# Altium footprint library ESC.PcbLib: 44 footprints (part 3 of 3)
Each footprint in its own frame and in the unit in brackets; x right, y up, seen from the top. Pads: shape width x height; smd on the part's side, far side on the other; paste and mask are expansions set on the pad; w line width, h text height; cw(c..) or ccw(c..) is an arc to the next point about the centre after c.
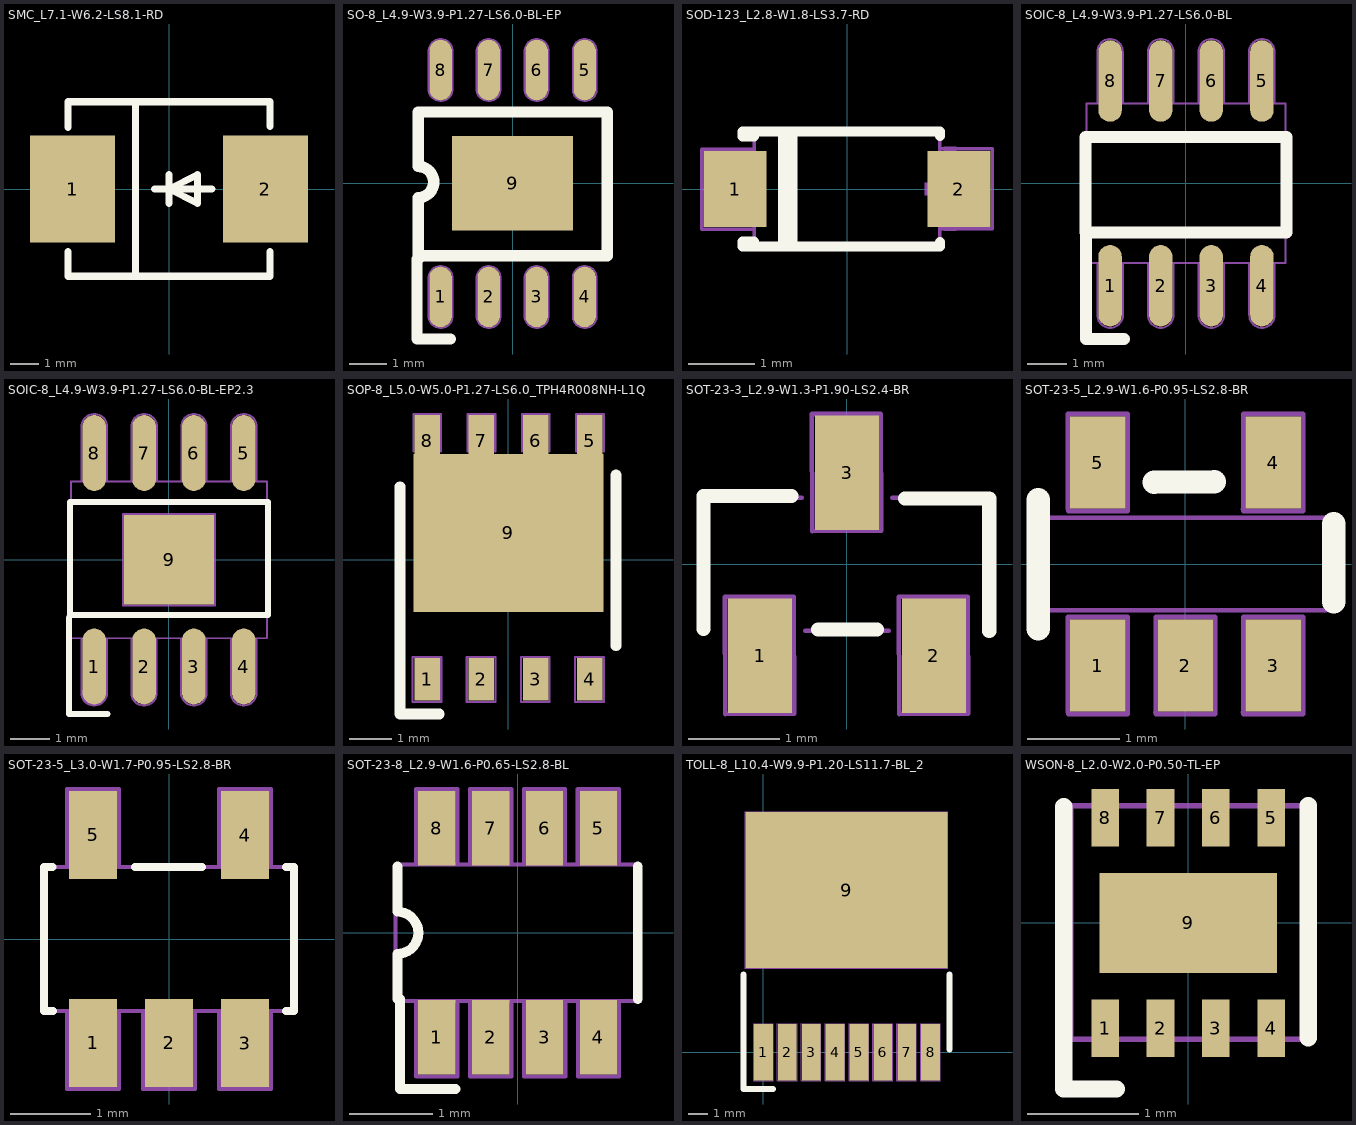
[diagram p2: the footprints below, top view; thin cyan lines are the x and y axes]

## SMC_L7.1-W6.2-LS8.1-RD [mm] "DO-214AB"
height 2.62
pads (2):
  rect 3.03x3.82 smd paste+0 mask+0.051: 1(-3.435,0) 2(3.435,0)
Top Overlay:
  lines w0.254: -3.6,-2.225 -3.6,-3.11 3.6,-3.11 3.6,-2.227 ; -3.6,2.202 -3.6,3.11 3.6,3.11 3.6,2.234 ; -1.192,-3.11 -1.192,3.11 ; -0.508,0 1.524,0 ; 0,0.508 0,-0.508 0,0 ; 0,0 1.016,0.508 1.016,-0.508 0,0
Mechanical 15:
  region: 2.54,0.254 4.318,0.254 4.318,-0.254 2.54,-0.254
  region: 3.181,-0.895 3.181,0.883 3.689,0.883 3.689,-0.895
  region: -4.33,0.254 -2.552,0.254 -2.552,-0.254 -4.33,-0.254
3D body "User Library-DO-214AB-SMC.step": height 2.5, standoff 0.05, extent -3.95,-2.95 3.85,2.95

## SO-8_L4.9-W3.9-P1.27-LS6.0-BL-EP [mm] "SO-8-EP"
height 1.7
pads (9):
  oval 0.6x1.6 smd paste+0 mask+0.051: 1(-1.905,-3) 2(-0.635,-3) 3(0.635,-3) 4(1.905,-3) 5(1.905,3) 6(0.635,3) 7(-0.635,3) 8(-1.905,3)
  rect 3.2x2.5 smd paste+0 mask+0.051: 9(0,0)
Top Overlay:
  lines w0.3: -2.5,-2 -2.53,-2 -2.53,-4.113 -1.65,-4.113 ; -2.5,0.45 cw(c-2.5,0.037) -2.499,-0.376 ; -2.5,-0.375 -2.5,-1.914 2.5,-1.914 2.5,1.889 -2.5,1.889 -2.5,0.45
Mechanical 2:
  lines w0.05: -2.5,2 -2.5,1 -2.5,0.45 cw(c-2.525,0.025) -2.5,-0.4 -2.5,-1 -2.5,-2 2.5,-2 2.5,2 -2.5,2 ; -2.222,-3.549 ccw(c-1.905,-3.503) -1.587,-3.539 -1.587,-2.457 ccw(c-1.904,-2.5) -2.222,-2.467 -2.222,-3.549 ; -2.222,2.451 ccw(c-1.905,2.497) -1.587,2.461 -1.587,3.543 ccw(c-1.904,3.5) -2.222,3.533 -2.222,2.451 ; -0.952,-3.549 ccw(c-0.635,-3.503) -0.317,-3.539 -0.317,-2.457 ccw(c-0.634,-2.5) -0.952,-2.467 -0.952,-3.549 ; -0.952,2.451 ccw(c-0.635,2.497) -0.317,2.461 -0.317,3.543 ccw(c-0.634,3.5) -0.952,3.533 -0.952,2.451 ; 0.318,-3.549 ccw(c0.635,-3.503) 0.953,-3.539 0.953,-2.457 ccw(c0.636,-2.5) 0.318,-2.467 0.318,-3.549 ; 0.318,2.451 ccw(c0.635,2.497) 0.953,2.461 0.953,3.543 ccw(c0.636,3.5) 0.318,3.533 0.318,2.451 ; 1.588,-3.549 ccw(c1.905,-3.503) 2.223,-3.539 2.223,-2.457 ccw(c1.906,-2.5) 1.588,-2.467 1.588,-3.549 ; 1.588,2.451 ccw(c1.905,2.497) 2.223,2.461 2.223,3.543 ccw(c1.906,3.5) 1.588,3.533 1.588,2.451
Mechanical 15:
  circle w0.2: c-1.898,-3.235 r0.1
3D body "LM5164DDAR.step": height 1.7, standoff 0, extent -2.45,-3 2.45,3

## SOD-123_L2.8-W1.8-LS3.7-RD [mm] "SOD-123"
height 1.3
pads (2):
  rect 0.95x1.15 smd paste+0 mask+0.051: 1(-1.693,0) 2(1.693,0)
Top Overlay:
  lines w0.152: -0.97,-0.866 -0.97,0.866 ; -0.827,-0.866 -0.827,0.866 ; 1.404,-0.805 1.404,-0.866 -1.406,-0.866 ; 1.406,0.801 1.406,0.866 -1.406,0.866 ; -1.406,-0.866 -1.58,-0.866 -1.58,-0.798 -1.406,-0.798 -1.406,-0.866 ; -1.406,0.866 -1.58,0.866 -1.58,0.798 -1.406,0.798 -1.406,0.866
Mechanical 2:
  lines w0.05: -1.4,0.6 -2.2,0.6 -2.2,-0.608 -1.397,-0.608 ; 1.397,0.608 2.2,0.608 2.2,-0.6 1.4,-0.6 ; -1.4,-0.9 -1.4,0.9 1.4,0.9 1.4,-0.9 -1.4,-0.9
Mechanical 15:
  region: -2.03,0.095 -2.03,-0.095 -1.272,-0.095 -1.272,0.095
  region: 1.935,0.098 1.935,-0.092 1.177,-0.092 1.177,0.098
  region: 1.651,0.635 1.651,-0.629 1.461,-0.629 1.461,0.635
3D body "User Library-SOD-123FL CASE 498.step": height 0.95, standoff 0, extent -1.8,-0.822 1.8,0.828

## SOIC-8_L4.9-W3.9-P1.27-LS6.0-BL [mm] "SOIC-8-150mil"
height 1.75
pads (8):
  oval 0.588x2.045 smd paste+0 mask+0.051: 1(-1.905,-2.57) 2(-0.635,-2.57) 3(0.635,-2.57) 4(1.905,-2.57) 5(1.905,2.57) 6(0.635,2.57) 7(-0.635,2.57) 8(-1.905,2.57)
Top Overlay:
  lines w0.3: -2.5,-1.3 -2.513,-1.313 -2.513,-3.904 -1.55,-3.904 ; -2.526,-1.23 2.526,-1.23 2.526,1.161 -2.526,1.161 -2.526,-1.23
Mechanical 2:
  lines w0.05: -2.226,2.004 -2.226,3.296 ; -2.227,3.291 cw(c-1.906,3.303) -1.585,3.29 ; -2.225,-3.29 ccw(c-1.904,-3.303) -1.583,-3.291 ; -2.224,-3.298 -2.224,-2.005 ; -1.586,2.005 -1.586,3.298 ; -1.584,-3.296 -1.584,-2.004 ; -0.956,2.004 -0.956,3.296 ; -0.957,3.291 cw(c-0.636,3.303) -0.315,3.29 ; -0.955,-3.29 ccw(c-0.634,-3.303) -0.313,-3.291 ; -0.954,-3.298 -0.954,-2.005 ; -0.316,2.005 -0.316,3.298 ; -0.314,-3.296 -0.314,-2.004 ; 0.314,2.004 0.314,3.296 ; 0.313,3.291 cw(c0.634,3.303) 0.955,3.29 ; 0.315,-3.29 ccw(c0.636,-3.303) 0.957,-3.291 ; 0.316,-3.298 0.316,-2.005 ; 0.954,2.005 0.954,3.298 ; 0.956,-3.296 0.956,-2.004 ; 1.584,2.004 1.584,3.296 ; 1.583,3.291 cw(c1.904,3.303) 2.225,3.29 ; 1.585,-3.29 ccw(c1.906,-3.303) 2.227,-3.291 ; 1.586,-3.298 1.586,-2.005 ; 2.224,2.005 2.224,3.298 ; 2.226,-3.296 2.226,-2.004 ; -2.5,-2 2.5,-2 2.5,2 -2.5,2 -2.5,-2
3D body "SO8_SOT96-1_NXP.step": height 1.76, standoff 0, extent -2.502,-3.099 2.502,3.099

## SOIC-8_L4.9-W3.9-P1.27-LS6.0-BL-EP2.3 [mm]
height 1.7
pads (9):
  oval 0.602x1.941 smd paste+0 mask+0.05: 1(-1.905,-2.72) 2(-0.635,-2.72) 3(0.635,-2.72) 4(1.905,-2.72) 5(1.905,2.72) 6(0.635,2.72) 7(-0.635,2.72) 8(-1.905,2.72)
  rect 2.29x2.29 smd paste+0 mask+0.05: 9(0,0)
Top Overlay:
  lines w0.154: -2.55,-1.471 -2.55,-3.93 -1.565,-3.93 ; -2.526,-1.407 -2.526,1.471 2.526,1.471 2.526,-1.407 -2.526,-1.407
Mechanical 2:
  lines w0.05: -2.23,-2 -2.23,-3.44 ccw(c-1.907,-3.388) -1.585,-3.44 -1.585,-2 -1.58,-2 ; -1.58,2 -1.58,3.44 ccw(c-1.903,3.388) -2.225,3.44 -2.225,2 ; -1.16,-1.165 -1.17,-1.165 ; -0.96,-2 -0.96,-3.44 ccw(c-0.637,-3.388) -0.315,-3.44 -0.315,-2 -0.31,-2 ; -0.96,2 -0.955,2 -0.955,3.44 cw(c-0.633,3.388) -0.31,3.44 -0.31,2 ; 0.31,-2 0.31,-3.44 ccw(c0.633,-3.388) 0.955,-3.44 0.955,-2 0.96,-2 ; 0.31,2 0.315,2 0.315,3.44 cw(c0.637,3.388) 0.96,3.44 0.96,2 ; 1.58,-2 1.58,-3.44 ccw(c1.903,-3.388) 2.225,-3.44 2.225,-2 ; 1.58,2 1.585,2 1.585,3.44 cw(c1.907,3.388) 2.23,3.44 2.23,2 ; -2.225,2 -2.23,2 -2.225,2 ; -1.17,-1.165 -1.17,1.17 1.175,1.17 1.175,-1.165 -1.17,-1.165 ; 2.225,-2 2.23,-2 2.225,-2 ; -2.5,-2 -2.5,2 2.5,2 2.5,-2 -2.5,-2
Mechanical 15:
  circle w0.3: c-1.905,-3.4 r0.15
3D body "SO8_SOT96-1_NXP.step": height 1.76, standoff 0, extent -2.502,-3.099 2.502,3.099

## SOP-8_L5.0-W5.0-P1.27-LS6.0_TPH4R008NH-L1Q [mm] "SOP-8-Advance"
height 1
pads (9):
  rect 0.6x1 smd paste-100 mask+0.051: 1(-1.905,-2.8) 2(-0.635,-2.8) 3(0.635,-2.8) 4(1.905,-2.8)
  rect 0.6x1.2 smd paste-100 mask+0.051: 5(1.905,2.8) 6(0.635,2.8) 7(-0.635,2.8) 8(-1.905,2.8)
  rect 4.45x3.7 smd paste-100 mask+0.051: 9(0,0.635)
Top Overlay:
  lines w0.254: -2.54,1.718 -2.54,-2.282 -2.54,-3.612 -1.622,-3.612 ; 2.518,-2.01 2.518,1.99
Top Paste:
  region: 1.588,-3.305 1.588,-2.305 2.188,-2.305 2.188,-3.305
  region: 0.318,-3.305 0.318,-2.305 0.918,-2.305 0.918,-3.305
  region: -0.952,-3.305 -0.952,-2.305 -0.352,-2.305 -0.352,-3.305
  region: -2.222,-3.305 -2.222,-2.305 -1.622,-2.305 -1.622,-3.305
  region: -2.2,-1.215 -2.2,2.085 2.2,2.085 2.2,-1.215
  region: 1.601,2.8 1.601,3.4 2.201,3.4 2.201,2.8
  region: 0.331,2.8 0.331,3.4 0.931,3.4 0.931,2.8
  region: -0.939,2.8 -0.939,3.4 -0.339,3.4 -0.339,2.8
  region: -2.209,2.8 -2.209,3.4 -1.609,3.4 -1.609,2.8
Mechanical 2:
  lines w0.05: -2.54,-2.282 -2.54,1.718 ; -2.226,2.55 -2.226,3.423 -1.585,3.423 ; -1.587,3.417 -1.581,3.417 -1.581,2.551 ; -0.956,2.55 -0.956,3.423 -0.315,3.423 ; -0.317,3.417 -0.311,3.417 -0.311,2.551 ; 0.314,2.55 0.314,3.423 0.955,3.423 ; 0.953,3.417 0.959,3.417 0.959,2.551 ; 1.588,2.55 1.588,3.424 2.229,3.424 ; 2.227,3.418 2.233,3.418 2.233,2.551 ; 2.5,-2 2.5,2 ; -2.247,-3.334 -1.577,-3.334 -1.577,-2.274 -2.247,-2.274 -2.247,-3.334 ; -0.977,-3.334 -0.307,-3.334 -0.307,-2.274 -0.977,-2.274 -0.977,-3.334 ; 0.293,-3.334 0.963,-3.334 0.963,-2.274 0.293,-2.274 0.293,-3.334 ; 1.563,-3.334 2.233,-3.334 2.233,-2.274 1.563,-2.274 1.563,-3.334
3D body "SOP Advance_z90.stp": height 0.95, standoff 0, extent -2.659,-3.002 2.641,2.998

## SOT-23-3_L2.9-W1.3-P1.90-LS2.4-BR [mm] "DIODE ARR SCHOTTKY 30V SOT-23"
height 1.1
pads (3):
  rect 0.7x1.25 smd paste+0 mask+0.051: 1(-0.95,-1) 2(0.95,-1) 3(0,1)
Top Overlay:
  lines w0.154: -1.568,-0.708 -1.568,0.745 -0.605,0.745 ; -0.314,-0.715 0.328,-0.714 ; 0.637,0.72 1.556,0.72 1.556,-0.732
Mechanical 2:
  lines w0.05: -1.526,-0.726 -1.526,0.726 -0.495,0.726 ; -1.33,-1.638 -0.577,-1.634 -0.581,-0.357 -1.334,-0.357 -1.33,-1.622 ; -0.455,-0.726 0.455,-0.726 ; -0.38,0.362 0.373,0.366 0.369,1.643 -0.384,1.643 -0.38,0.377 ; 0.495,0.726 1.526,0.726 1.526,-0.726 ; 0.57,-1.638 1.323,-1.634 1.319,-0.357 0.566,-0.357 0.57,-1.622
Mechanical 15:
  circle w0.2: c-1.1,-1.46 r0.1
3D body "sot-23.stp": height 1.2, standoff -0.1, extent -1.518,-1.248 1.522,1.352

## SOT-23-5_L2.9-W1.6-P0.95-LS2.8-BR [mm] "SOT-23-5"
height 1.1
pads (5):
  rect 0.6x1 smd paste+0 mask+0.05: 1(-0.95,-1.1) 2(0,-1.1) 3(0.95,-1.1) 4(0.95,1.1) 5(-0.95,1.1)
Top Overlay:
  lines w0.254: -1.597,-0.701 -1.597,0.696 ; -0.339,0.887 0.313,0.892 ; 1.608,-0.41 1.608,0.435
Mechanical 2:
  lines w0.05: -1.525,0.5 1.525,0.5 1.525,-0.422 1.525,-0.422 1.525,-0.5 -1.524,-0.5 -1.524,0.5 ; -1.277,-1.605 -1.273,-1.605 -1.273,-0.574 -0.626,-0.574 -0.626,-1.625 -1.271,-1.625 ; -1.277,0.595 -1.273,0.595 -1.273,1.626 -0.626,1.626 -0.626,0.576 -1.271,0.576 ; -0.327,-1.605 -0.323,-1.605 -0.323,-0.574 0.324,-0.574 0.324,-1.625 -0.321,-1.625 ; 0.623,-1.605 0.627,-1.605 0.627,-0.574 1.274,-0.574 1.274,-1.625 0.629,-1.625 ; 0.623,0.595 0.627,0.595 0.627,1.626 1.274,1.626 1.274,0.576 0.629,0.576
3D body "CircuitWorks-SOT-23-5.step": height 1.1, standoff 0, extent -1.55,-1.35 1.45,1.15

## SOT-23-5_L3.0-W1.7-P0.95-LS2.8-BR [mm] "SOT-23-5"
height 1.3
pads (5):
  rect 0.6x1.1 smd paste+0 mask+0.051: 1(-0.95,-1.3) 2(0,-1.3) 3(0.95,-1.3) 4(0.95,1.3) 5(-0.95,1.3)
Top Overlay:
  lines w0.1: -1.457,0.9 -1.564,0.9 -1.564,-0.9 -1.457,-0.9 -1.448,-0.9 ; -0.427,0.898 0.414,0.9 ; 1.461,-0.898 1.564,-0.898 1.564,0.902 1.461,0.902
Mechanical 2:
  lines w0.05: -1.28,0.905 -1.275,0.905 -1.275,1.875 -0.625,1.875 -0.625,0.905 ; -1.275,-0.905 -1.275,-1.875 -0.625,-1.875 -0.625,-0.905 -0.62,-0.905 ; -0.325,-0.905 -0.325,-1.875 0.325,-1.875 0.325,-0.905 0.33,-0.905 ; 0.62,0.905 0.625,0.905 0.625,1.875 1.275,1.875 1.275,0.905 ; 0.625,-0.905 0.625,-1.875 1.275,-1.875 1.275,-0.905 1.28,-0.905 ; -1.55,-0.9 1.55,-0.9 1.55,0.9 -1.55,0.9 -1.55,-0.9
3D body "CircuitWorks-SOT-23-5.step": height 1.05, standoff -0.05, extent -1.525,-1.18 1.475,1.32

## SOT-23-8_L2.9-W1.6-P0.65-LS2.8-BL [mm] "TSOT-23-8"
height 1.1
pads (8):
  rect 0.45x0.9 smd paste+0 mask+0.051: 1(-0.975,-1.26) 2(-0.325,-1.26) 3(0.325,-1.26) 4(0.975,-1.26) 5(0.975,1.26) 6(0.325,1.26) 7(-0.325,1.26) 8(-0.975,1.26)
Top Overlay:
  lines w0.12: -1.451,-0.255 ccw(c-1.453,0) -1.45,0.254 -1.45,0.801 ; -1.45,-0.254 -1.45,-0.8 -1.42,-0.8 -1.42,-1.886 -0.75,-1.886 ; 1.45,-0.8 1.45,0.8
Mechanical 2:
  lines w0.05: -1.224,0.834 -1.224,1.735 -0.727,1.735 -0.727,0.824 ; -1.223,-0.824 -1.223,-1.735 -0.726,-1.735 -0.726,-0.834 ; -0.574,0.834 -0.574,1.735 -0.077,1.735 -0.077,0.824 ; -0.573,-0.824 -0.573,-1.735 -0.076,-1.735 -0.076,-0.834 ; 0.077,-0.824 0.077,-1.735 0.574,-1.735 0.574,-0.834 ; 0.076,0.834 0.076,1.735 0.573,1.735 0.573,0.824 ; 0.726,0.834 0.726,1.735 1.223,1.735 1.223,0.824 ; 0.727,-0.824 0.727,-1.735 1.224,-1.735 1.224,-0.834 ; -1.475,-0.825 -1.475,0.825 1.475,0.825 1.475,-0.825 -1.475,-0.825
3D body "User Library-SOT-23-8 Thin.step": height 1.1, standoff 0, extent -1.45,-1.48 1.45,1.478

## TOLL-8_L10.4-W9.9-P1.20-LS11.7-BL_2 [mil] "HSOF-8"
height 94.49
pads (9):
  rect 37x111 smd paste+0 mask+1.97: 1(0,0) 2(47.24,0) 3(94.49,0) 4(141.73,0) 5(188.98,0) 6(236.22,0) 7(283.46,0) 8(330.71,0)
  rect 400x309 smd paste+0 mask+1.97: 9(164.5,321)
Top Overlay:
  lines w11.81: -39.66,5.5 -39.66,-72.67 19.29,-72.67 ; -39.5,5.5 -39.5,154.03 ; 368.5,5.5 368.5,154.03
  text "RefDes" at 35.64,270.82 h50
Mechanical 2:
  lines w1.97: -39.5,5.5 -39.5,154.03 ; -36.81,166.6 364.57,166.6 364.57,475.85 -36.22,475.85 -36.22,166.6 ; -19.49,-56.43 19.29,-56.43 19.29,56.56 -19.49,56.56 -19.49,-56.43 ; 27.76,-56.43 66.54,-56.43 66.54,56.56 27.76,56.56 27.76,-56.43 ; 75,-56.43 113.78,-56.43 113.78,56.56 75,56.56 75,-56.43 ; 122.24,-56.43 161.02,-56.43 161.02,56.56 122.24,56.56 122.24,-56.43 ; 169.49,-56.43 208.27,-56.43 208.27,56.56 169.49,56.56 169.49,-56.43 ; 216.73,-56.43 255.51,-56.43 255.51,56.56 216.73,56.56 216.73,-56.43 ; 263.98,-56.43 302.76,-56.43 302.76,56.56 263.98,56.56 263.98,-56.43 ; 311.22,-56.43 350,-56.43 350,56.56 311.22,56.56 311.22,-56.43
3D body "TRANS_IPT012N08N5ATMA1_INF.step": height 96.06, standoff -0.04, extent -34.52,-41.5 363.52,454.48

## WSON-8_L2.0-W2.0-P0.50-TL-EP [mm] "WSON-8-EP(2x2)"
height 1.1
pads (9):
  rect 0.25x0.521 smd paste+0 mask+0.05: 1(-0.75,-0.95) 2(-0.25,-0.95) 3(0.25,-0.95) 4(0.75,-0.95) 5(0.75,0.95) 6(0.25,0.95) 7(-0.25,0.95) 8(-0.75,0.95)
  rect 1.6x0.9 smd paste+0 mask+0.05: 9(0,0)
Top Overlay:
  lines w0.154: -1.125,1.051 -1.125,-1.049 -1.125,-1.5 -0.65,-1.5 ; 1.084,-1.037 1.084,1.062
Mechanical 2:
  lines w0.05: -1.063,-1.05 1.06,-1.05 1.06,1.059 -1.063,1.059 -1.063,-1.05
3D body "TPS62162DSGR.step": height 0.8, standoff 0, extent -1,-1 1,1